# EAGLE library part ESP8266_NODE_MCU_MINI (library ESP8266)
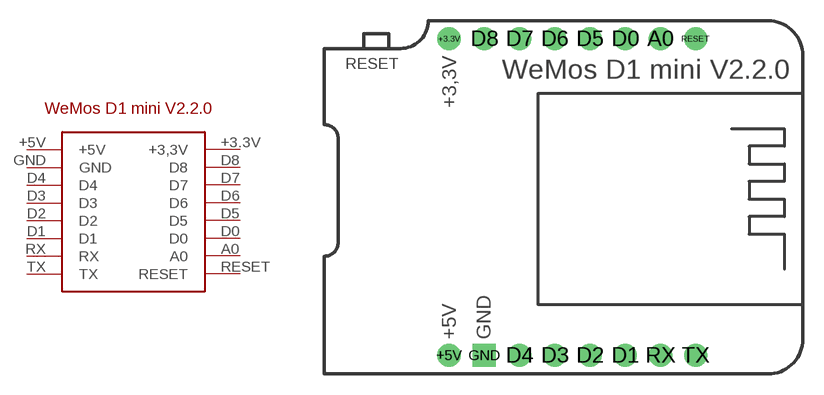
[diagram p0: symbol with the pads of ESP8266_NODE_MCU_MINI; footprint ESP8266_NODE_MCU_MINI]

Designator prefix -

## ESP8266_NODE_MCU_MINI  [ESP8266_NODE_MCU_MINI]
+3.3V  +3,3V
+5V  +5V
A0  A0
D0  D0
D1  D1
D2  D2
D3  D3
D4  D4
D5  D5
D6  D6
D7  D7
D8  D8
GND  GND
RESET  RESET
RX  RX
TX  TX

## Footprint ESP8266_NODE_MCU_MINI (pad centres in mm)
drill 0.9 pad 1.676: +3.3V -2.5,9.7; +5V -2.5,-13.16; A0 12.74,9.7; D0 10.2,9.7; D1 10.2,-13.16; D2 7.66,-13.16; D3 5.12,-13.16; D4 2.58,-13.16; D5 7.66,9.7; D6 5.12,9.7; D7 2.58,9.7; D8 0.04,9.7; RESET 15.28,9.7; RX 12.74,-13.16; TX 15.28,-13.16
drill 0.9 pad 1.676 square: GND 0.04,-13.16